# Altium footprint library Cap_Film_Pcb.PcbLib: 1 footprints
Each footprint in its own frame and in the unit in brackets; x right, y up, seen from the top. Pads: shape width x height; smd on the part's side, far side on the other; paste and mask are expansions set on the pad; w line width, h text height; cw(c..) or ccw(c..) is an arc to the next point about the centre after c.
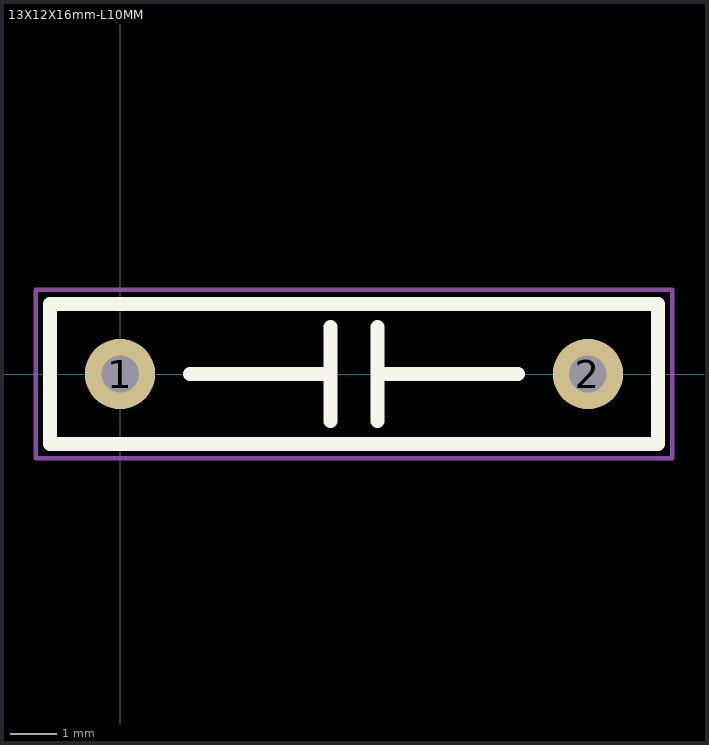
[diagram p0: the footprint, top view; thin cyan lines are the x and y axes]

## 13X12X16mm-L10MM [mm]
pads (2):
  round 1.5 hole 0.8: 1(0,0) 2(10,0)
Top Overlay:
  lines w0.3: 1.5,0 4.5,0 ; 4.5,-1 4.5,0 ; 4.5,1 4.5,0 ; 5.5,-1 5.5,1 ; 5.5,0 8.5,0 ; -1.5,-1.5 11.5,-1.5 11.5,1.5 -1.5,1.5 -1.5,-1.5
Mechanical 13:
  lines w0.254: -1.5,-1.5 11.5,-1.5 11.5,1.5 -1.5,1.5 -1.5,-1.5
  text ".designator" at -0.475,-1.03 h2
Mechanical 15:
  lines w0.1: -1.8,-1.8 11.8,-1.8 11.8,1.8 -1.8,1.8 -1.8,-1.8
3D body "Film Capacitor 13x5x11mm.step": height 11.01, standoff -2.49, extent -1.5,-2.5 11.5,2.5